# Altium footprint library Thyristor_Pcb.PcbLib: 2 footprints
Each footprint in its own frame and in the unit in brackets; x right, y up, seen from the top. Pads: shape width x height; smd on the part's side, far side on the other; paste and mask are expansions set on the pad; w line width, h text height; cw(c..) or ccw(c..) is an arc to the next point about the centre after c.
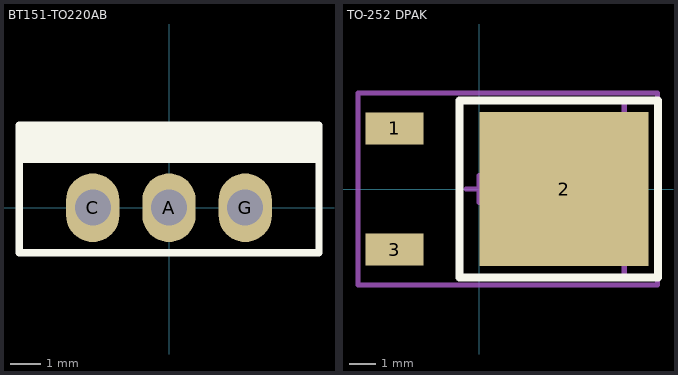
[diagram p0: the footprints below, top view; thin cyan lines are the x and y axes]

## BT151-TO220AB [mil]
pads (3):
  oval 70x90 hole 47.24: A(0,0) C(-100,0) G(100,0)
Top Overlay:
  region: -196.85,108.27 -196.85,59.06 196.85,59.06 196.85,108.27
  lines w9.84: -196.85,59.06 -196.85,0 ; -196.85,0 -196.85,108.27 196.85,108.27 196.85,-59.06 -196.85,-59.06 -196.85,0
3D body "TO220-AB PCB.step": height 789.37, standoff -137.8, extent -194.88,-61.02 194.88,114.47

## TO-252 DPAK [mm] "DPAK, Body 9.94x6.56mm"
height 2.41
pads (3):
  rect 2.2x1.2 smd: 1(-3.2,2.29) 3(-3.2,-2.29)
  rect 6.4x5.8 smd: 2(3.2,0)
Top Overlay:
  lines w0.3: -0.746,-3.35 -0.746,3.35 6.75,3.35 6.75,-3.35 -0.746,-3.35
Mechanical 13:
  lines w0.2: -0.746,-3.375 -0.746,3.375 5.474,3.375 5.474,-3.375 -0.746,-3.375
Mechanical 15:
  lines w0.2: -0.5,0 0.5,0 ; 0,-0.5 0,0.5 ; -4.58,-3.625 -4.58,3.625 6.731,3.625 6.731,-3.625 -4.58,-3.625
3D body "INFINEON PG-TO 252 GDS FET.step": height 2.41, standoff 0, extent -3.959,-3.375 5.981,3.375